# Altium footprint library L.PcbLib: 2 footprints
Each footprint in its own frame and in the unit in brackets; x right, y up, seen from the top. Pads: shape width x height; smd on the part's side, far side on the other; paste and mask are expansions set on the pad; w line width, h text height; cw(c..) or ccw(c..) is an arc to the next point about the centre after c.
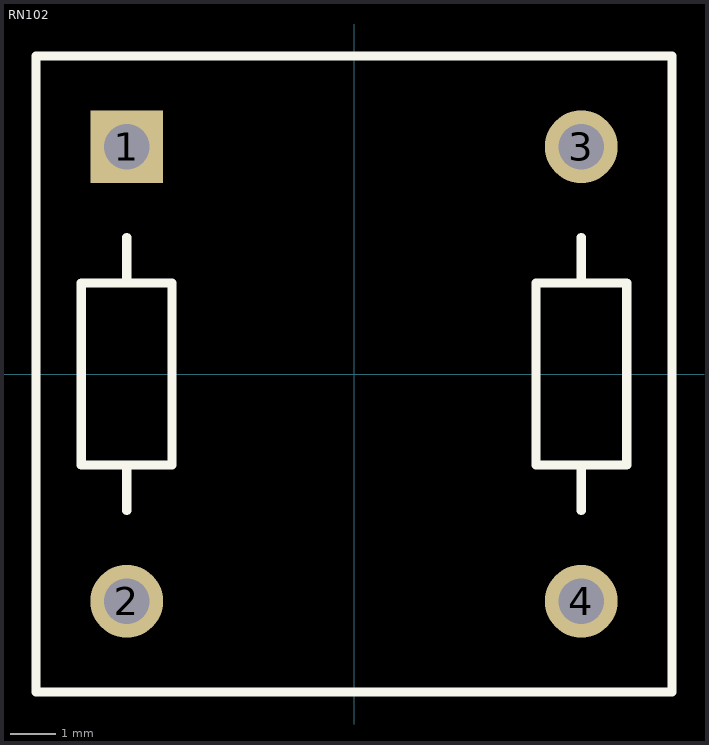
[diagram p0: the footprints below, top view; thin cyan lines are the x and y axes]

## PCBComponent_1 [mm]

## RN102 [mm] "Common mode chock 14x14 mm 9.3mm"
height 9.3
pads (4):
  rect 1.6x1.6 hole 1: 1(-5,5)
  round 1.6 hole 1: 2(-5,-5) 3(5,5) 4(5,-5)
Top Overlay:
  lines w0.2: -5,3 -5,2 ; 5,3 5,2 ; -5,-2 -4,-2 -4,2 -5,2 ; -5,-2 -5,-3 -5,-2 ; -5,-2 -6,-2 -6,2 -5,2 ; 5,-2 6,-2 6,2 5,2 ; 5,-2 5,-3 5,-2 ; 5,-2 4,-2 4,2 5,2 ; -7,-7 -7,7 7,7 7,-7 -7,-7
3D body: height 9.3, standoff 2, extent -7,-7 7,7